# Altium schematic symbol library STM_VL53L7CXV0GC-1.SchLib: 1 symbol
Pins are listed as number, name and electrical type; pins without a type are passive.

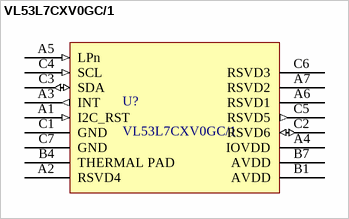
[diagram p0: symbol VL53L7CXV0GC/1]

## VL53L7CXV0GC/1
designator U?
Proximity Sensor Time of Flight(TOF) 350cm 2.5V to 3.3V/3V to 3.6VDC 16-Pin OPT LGA EP T/R; Manufacturer: STMicroelectronics; Manufacturer Part Number: VL53L8CXV0GC/1; Max Supply Voltage: 1.98V; Min Supply Voltage: 1.62V; Sensing Distance: 4m; Supplier: Mouser; Supplier Part Number: 511-VL53L8CXV0GC/1; RoHS: Compliant; Category: Sensors; Stock: 7156; Pricing: 1=10.39, 10=8.03, 50=7.66, 100=6.65, 1000=5.04, 10000=4.85 (USD); China RoHS: Compliant; Height: 1.75mm; Length: 6.4mm; Lifecycle Status: Production; Max Operating Temperature: 85°C; Min Operating Temperature: -30°C; Mounting Technology: Surface Mount; REACH SVHC: Yes; Supplier 1: Mouser; Supplier Part Number 1: 511-VL53L7CXV0GC/1
footprint VL53L7CXV0GC1
pins: A1 I2C_RST (in), A2 RSVD4, A3 INT (out), A4 IOVDD (power), A5 LPn (in), A6 RSVD1, A7 RSVD2, B1 AVDD (power), B4 THERMAL PAD, B7 AVDD (power), C1 GND (power), C2 RSVD6 (io), C3 SDA (io), C4 SCL (in), C5 RSVD5 (out), C6 RSVD3, C7 GND (power)